# Altium schematic symbol library BB-HEADER-DUAL-P01-P12.SchLib: 1 symbol
Pins are listed as number, name and electrical type; pins without a type are passive.

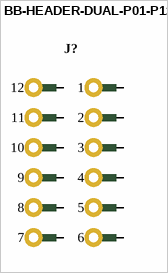
[diagram p0: symbol BB-HEADER-DUAL-P01-P12]

## BB-HEADER-DUAL-P01-P12
designator J?  (value not drawn)
Dual Row BB Header, Vertical, Male, 0.1"2.54mm,P01-P12
pins: 1, 2, 3, 4, 5, 6, 7, 8, 9, 10, 11, 12